# Altium footprint library Led.PcbLib: 4 footprints
Each footprint in its own frame and in the unit in brackets; x right, y up, seen from the top. Pads: shape width x height; smd on the part's side, far side on the other; paste and mask are expansions set on the pad; w line width, h text height; cw(c..) or ccw(c..) is an arc to the next point about the centre after c.
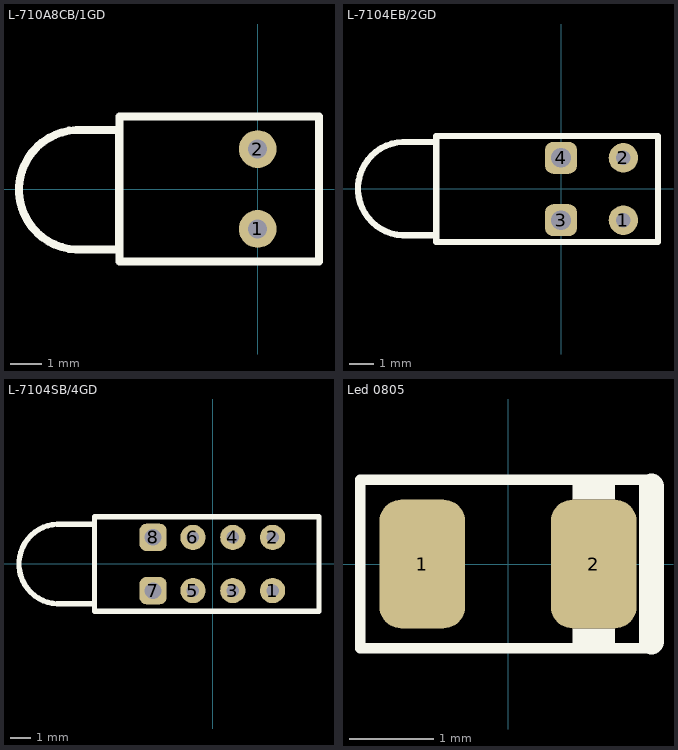
[diagram p0: the footprints below, top view; thin cyan lines are the x and y axes]

## L-710A8CB/1GD [mm]
pads (2):
  round 1.2 hole 0.6: 1(0,-1.27) 2(0,1.27)
Top Overlay:
  lines w0.254: -5.769,1.877 ccw(c-5.686,-0.025) -5.771,-1.927 -4.41,-1.927 -4.41,1.865 -4.4,1.875 -5.766,1.875 ; -4.4,-2.3 -4.4,2.3 1.95,2.3 1.95,-2.3 ; -4.39,-2.3 1.93,-2.3
3D body: height 5, standoff 3, extent -7.59,-1.927 -4.4,1.877
3D body: height 7.3, standoff 0, extent -4.4,-2.3 1.95,2.3

## L-7104EB/2GD [mm]
pads (4):
  round 1.2 hole 0.6: 1(2.54,-1.27) 2(2.54,1.27)
  rrect50% 1.3x1.3 hole 0.8: 3(0,-1.27) 4(0,1.27)
Top Overlay:
  lines w0.254: -6.449,1.917 ccw(c-6.366,0.015) -6.451,-1.887 -5.09,-1.887 -5.09,1.905 -5.08,1.915 -6.446,1.915 ; -5.08,-2.16 -5.08,2.16 3.95,2.16 3.95,-2.16 -5.07,-2.16
3D body: height 3, standoff 2.53, extent -8.27,-1.887 -5.08,1.917
3D body: height 9.65, standoff 0, extent -5.08,-2.16 3.95,2.16

## L-7104SB/4GD [mm]
pads (8):
  round 1.2 hole 0.6: 1(2.86,-1.27) 2(2.86,1.27) 3(0.96,-1.27) 4(0.96,1.27) 5(-0.94,-1.27) 6(-0.94,1.27)
  rrect50% 1.3x1.3 hole 0.8: 7(-2.84,-1.27) 8(-2.84,1.27)
Top Overlay:
  lines w0.254: -7.411,-1.902 cw(c-7.326,0) -7.409,1.902 -7.406,1.9 -5.63,1.9 -5.635,1.895 -5.635,-1.902 -7.411,-1.902 ; -5.63,-2.25 5.07,-2.25 5.07,2.25 -5.63,2.25 -5.63,-2.25
3D body: height 3, standoff 2.54, extent -9.23,-1.902 -5.63,1.902
3D body: height 20.3, standoff 0, extent -5.63,-2.25 5.07,2.25

## Led 0805 [mil]
pads (2):
  rrect50% 40x60 smd: 1(-40,0) 2(40,0)
Top Overlay:
  rectangle: 30,-40 50,-30
  rectangle: 30,30 50,40
  lines w4.92: 63.9,-39.37 -68.9,-39.37 -68.9,39.37 63.9,39.37
  lines w11.81: 66.93,-36.34 66.93,36.34
3D body "Led 0805-Yellow.STEP": height 43.31, standoff 0, extent -39.77,-24.61 39.76,24.6